# Altium footprint library NEC Control.PcbLib: 1 footprints
Each footprint in its own frame and in the unit in brackets; x right, y up, seen from the top. Pads: shape width x height; smd on the part's side, far side on the other; paste and mask are expansions set on the pad; w line width, h text height; cw(c..) or ccw(c..) is an arc to the next point about the centre after c.
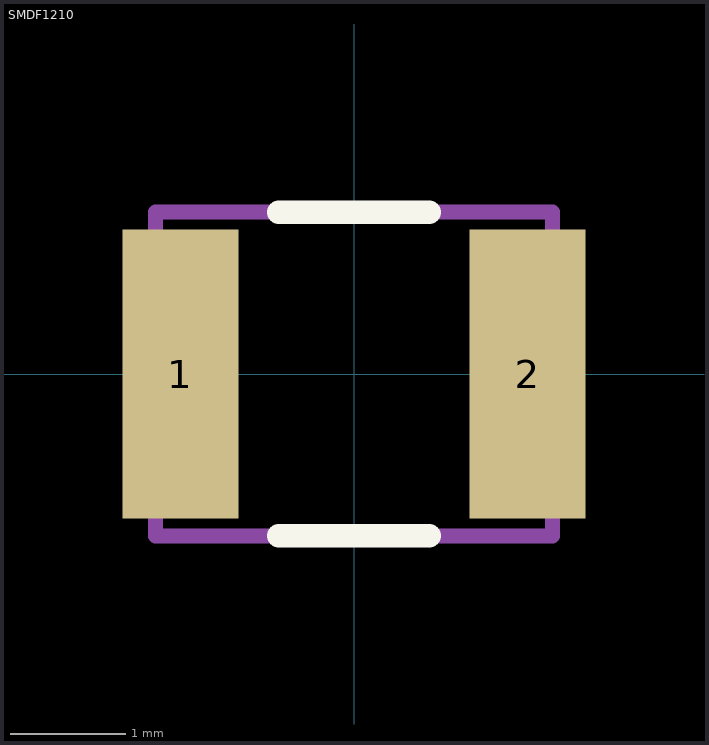
[diagram p0: the footprint, top view; thin cyan lines are the x and y axes]

## SMDF1210 [mm]
height 1.2
pads (2):
  rect 1x2.5 smd: 1(-1.5,0) 2(1.5,0)
Top Overlay:
  lines w0.203: -0.65,-1.4 0.65,-1.4 ; -0.65,1.4 0.65,1.4
Mechanical 1:
  text ".Designator" at 0,0 h1.52
Mechanical 15 (Mech15):
  lines w0.127: -1.715,-1.4 1.715,-1.4 1.715,1.4 -1.715,1.4 -1.715,-1.4
3D body: height 0.9, standoff 0, extent -1.67,-1.37 1.67,1.37